# Altium schematic symbol library photodetector.SchLib: 11 symbols
Pins are listed as number, name and electrical type; pins without a type are passive.

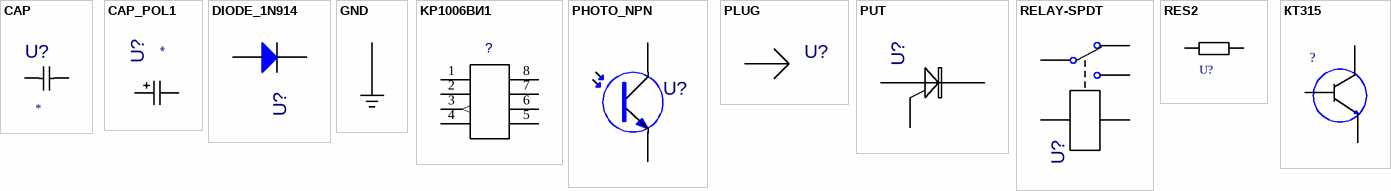
[diagram p0: symbols CAP to КТ315]

## CAP
designator U?  (value not drawn)
Value: *
footprint RAD-0.3
pins: 1, 2

## CAP_POL1
designator U?  (value not drawn)
Value: *
footprint RB7.6-15
pins: 1, 2

## DIODE_1N914
designator U?  (value not drawn)
Value: *
footprint DIO7.1-3.9X1.9
pins: 1 A, 2 K

## GND
designator PWR?  (value not drawn)
Value: *
pins: 0 GND (power)

## KP1006ВИ1
designator ?  (value not drawn)
Value: *
footprint KP1006ВИ1
pins: 1, 2, 3 (out), 4, 5, 6, 7, 8

## PHOTO_NPN
designator U?  (value not drawn)
Value: *
footprint SFM-T2(3)/X1.6V
pins: 1 C, 3 E

## PLUG
designator U?  (value not drawn)
Value: *
footprint PIN1
pins: 1

## PUT
designator U?  (value not drawn)
Value: *
pins: 1 A, 2 G, 3 K

## RELAY-SPDT
designator U?  (value not drawn)
Value: *
footprint DIP-P5/X1.65
pins: 1, 2, 3, 4, 5

## RES2
designator U?  (value not drawn)
Value: *
footprint AXIAL-0.4
pins: 1, 2

## КТ315
designator ?  (value not drawn)
Value: *
footprint КТ315
pins: B, E, K